# Altium footprint library MJ-0-4.PcbLib: 1 footprints
Each footprint in its own frame and in the unit in brackets; x right, y up, seen from the top. Pads: shape width x height; smd on the part's side, far side on the other; paste and mask are expansions set on the pad; w line width, h text height; cw(c..) or ccw(c..) is an arc to the next point about the centre after c.
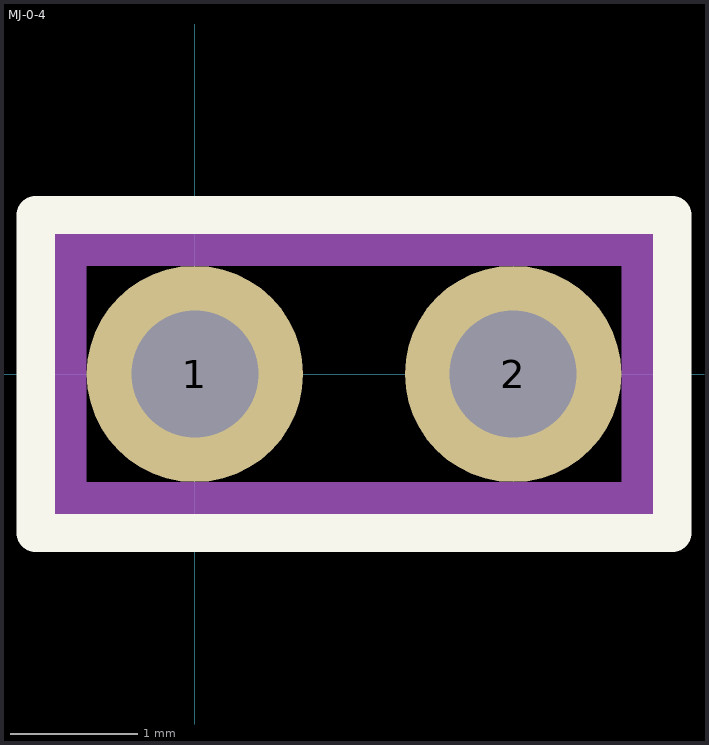
[diagram p0: the footprint, top view; thin cyan lines are the x and y axes]

## MJ-0-4 [mm]
pads (2):
  round 1.7 hole 1 unplated: 1(0,0) 2(2.5,0)
Top Overlay:
  lines w0.3: -1.25,-1.25 3.75,-1.25 3.75,1.25 -1.25,1.25 -1.25,0 -1.25,-1.25
TopAssy:
  lines w0.3: -1,-1 -1,1 3.5,1 3.5,-1 -1,-1